# Altium footprint library JUMPER_SMD.PcbLib: 6 footprints
Each footprint in its own frame and in the unit in brackets; x right, y up, seen from the top. Pads: shape width x height; smd on the part's side, far side on the other; paste and mask are expansions set on the pad; w line width, h text height; cw(c..) or ccw(c..) is an arc to the next point about the centre after c.
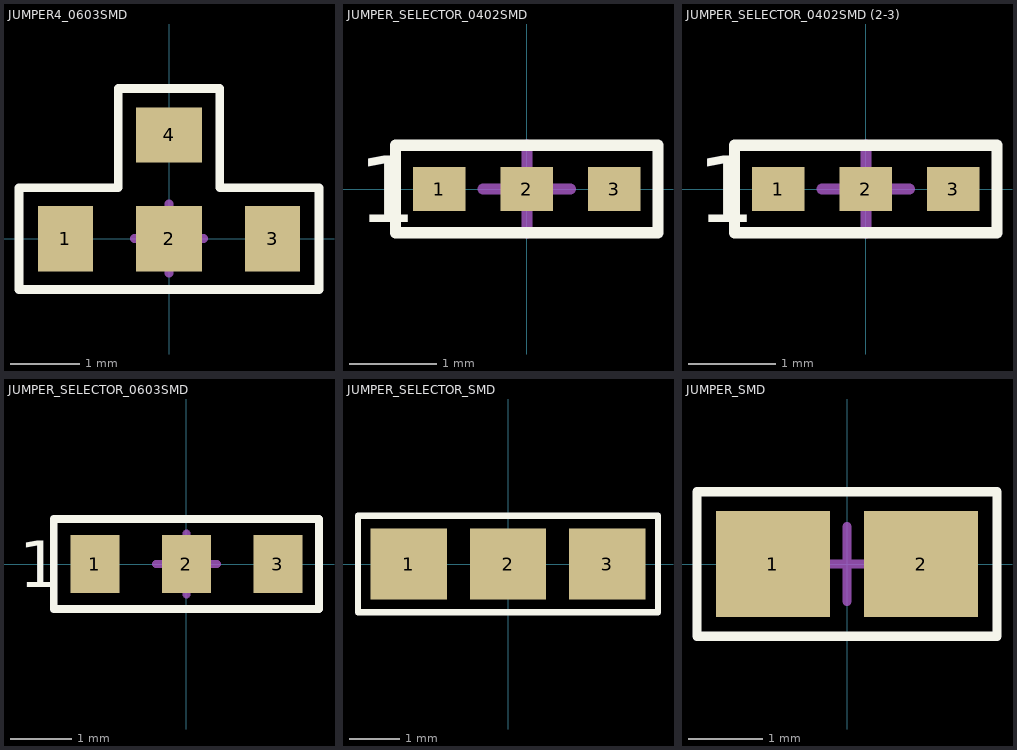
[diagram p0: the footprints below, top view; thin cyan lines are the x and y axes]

## JUMPER4_0603SMD [mm]
height 0.7
pads (4):
  rect 0.8x0.95 smd: 1(-1.5,0) 3(1.5,0)
  rect 0.95x0.95 smd: 2(0,0)
  rect 0.95x0.8 smd: 4(0,1.5)
Top Overlay:
  lines w0.127: -2.172,-0.737 2.172,-0.737 2.172,0.737 0.737,0.737 0.737,2.172 -0.737,2.172 -0.737,0.737 -2.172,0.737 -2.172,-0.737
  text "." at -0.279,0.787 h0.15
  text "." at 0.279,0.787 h0.15
  text "." at 0,0.787 h0.15
  text "." at 0.789,0.203 h0.15
  text "." at 0.789,-0.178 h0.15
  text "." at -0.787,0 h0.15
Mechanical 15:
  lines w0.127: -0.5,0 0.5,0 ; 0,-0.5 0,0.5
3D body "0603.STEP": height 0.44, standoff -0.03, extent -1.55,-0.406 0.05,0.394

## JUMPER_SELECTOR_0402SMD [mm]
height 0.7
pads (3):
  rect 0.6x0.5 smd: 1(-1,0) 2(0,0) 3(1,0)
Top Overlay:
  lines w0.127: -1.5,-0.5 -1.5,0.5 1.5,0.5 1.5,-0.5 -1.5,-0.5
  text "1" at -1.93,-0.381 h0.76
Mechanical 15:
  lines w0.127: -0.5,0 0.5,0 ; 0,-0.5 0,0.5
3D body "User Library-Chip Resistor2.step": height 0.38, standoff 0, extent -0.992,-0.25 0.008,0.25

## JUMPER_SELECTOR_0402SMD (2-3) [mm]
height 0.7
pads (3):
  rect 0.6x0.5 smd: 1(-1,0) 2(0,0) 3(1,0)
Top Overlay:
  lines w0.127: -1.5,-0.5 1.5,-0.5 1.5,0.5 -1.5,0.5 -1.5,-0.5
  text "1" at -1.93,-0.381 h0.76
Mechanical 15:
  lines w0.127: -0.5,0 0.5,0 ; 0,-0.5 0,0.5
3D body "User Library-Chip Resistor2.step": height 0.38, standoff 0, extent 0,-0.25 1,0.25

## JUMPER_SELECTOR_0603SMD [mm]
height 0.7
pads (3):
  rect 0.8x0.95 smd: 1(-1.5,0) 2(0,0) 3(1.5,0)
Top Overlay:
  lines w0.127: -2.172,-0.737 2.172,-0.737 2.172,0.737 -2.172,0.737 -2.172,-0.737
  text "1" at -2.743,-0.381 h0.76
Mechanical 15:
  lines w0.127: -0.5,0 0.5,0 ; 0,-0.5 0,0.5
3D body "0603.STEP": height 0.44, standoff -0.03, extent -1.55,-0.406 0.05,0.394

## JUMPER_SELECTOR_SMD [mil]
height 27.56
pads (3):
  rect 60x56 smd: 1(-78,0) 2(0,0) 3(78,0)
Top Overlay:
  lines w5: -118,-38 118,-38 118,38 -118,38 -118,-38
Mechanical 15:
  lines w5: -19.69,0 19.68,0 ; 0,-19.68 0,19.68

## JUMPER_SMD [mil]
height 27.56
pads (2):
  rect 60x56 smd: 1(-39,0) 2(39,0)
Top Overlay:
  lines w5: -79,-38 79,-38 79,38 -79,38 -79,-38
Mechanical 15:
  lines w5: -19.69,0 19.68,0 ; 0,-19.68 0,19.68